# EAGLE library part 2.3-TFT-50P-0.5 (library 32teeth - 2.3" TFT 50P)
0.5mm Pitch Connectors For FPC/FFC Source: Data sheet <http://www.hirose.co.jp/cataloge_hp/e58605370.pdf>
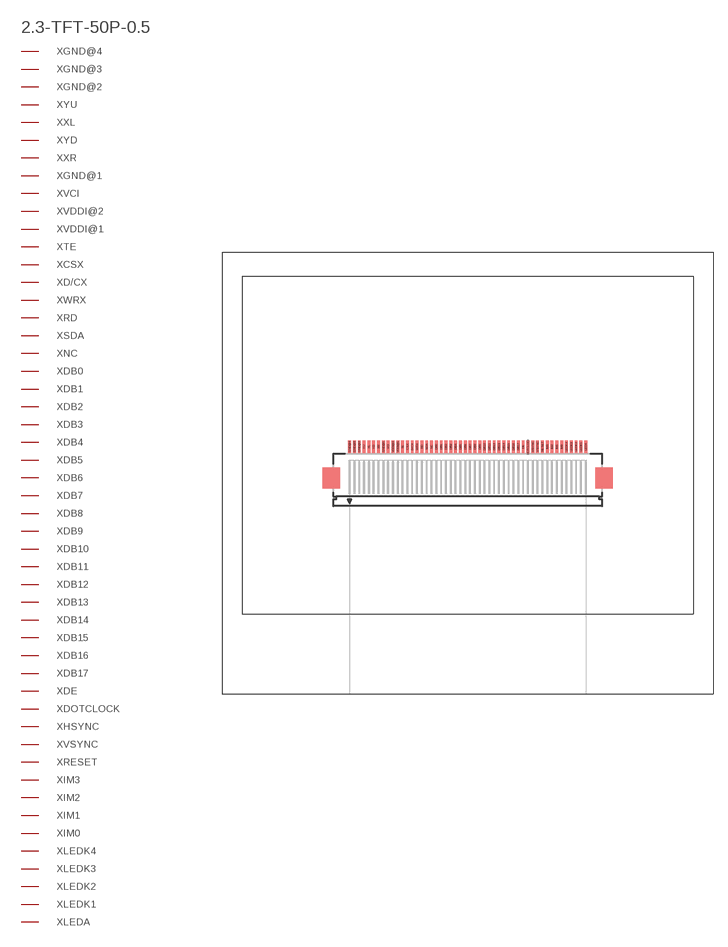
[diagram p0: symbol with the pads of 2.3-TFT-50P-0.5; footprint 2.3-TFT-50P-0.5]

Designator prefix X; gates GND@4=PINV GND@3=PIN GND@2=PIN YU=PIN XL=PIN YD=PIN XR=PIN GND@1=PIN VCI=PIN VDDI@2=PIN VDDI@1=PIN TE=PIN CSX=PIN D/CX=PIN WRX=PIN RD=PIN SDA=PIN NC=PIN DB0=PIN DB1=PIN DB2=PIN DB3=PIN DB4=PIN DB5=PIN DB6=PIN DB7=PIN DB8=PIN DB9=PIN DB10=PIN DB11=PIN DB12=PIN DB13=PIN DB14=PIN DB15=PIN DB16=PIN DB17=PIN DE=PIN DOTCLOCK=PIN HSYNC=PIN VSYNC=PIN RESET=PIN IM3=PIN IM2=PIN IM1=PIN IM0=PIN LEDK4=PIN LEDK3=PIN LEDK2=PIN LEDK1=PIN LEDA=PIN

## 2.3-TFT-50P-0.5H (MPN: FH12-50S-0.5SH(55); OC_FARNELL: 1324557; OC_NEWARK: 34M6181)  [2.3-TFT-50P-0.5]
CSX  CSX:1  pas
D/CX  D/CX:1  pas
DB0  DB0:1  pas
DB1  DB1:1  pas
DB2  DB2:1  pas
DB3  DB3:1  pas
DB4  DB4:1  pas
DB5  DB5:1  pas
DB6  DB6:1  pas
DB7  DB7:1  pas
DB8  DB8:1  pas
DB9  DB9:1  pas
DB10  DB10:1  pas
DB11  DB11:1  pas
DB12  DB12:1  pas
DB13  DB13:1  pas
DB14  DB14:1  pas
DB15  DB15:1  pas
DB16  DB16:1  pas
DB17  DB17:1  pas
DE  DE:1  pas
DOTCLOCK  DOTCLOCK:1  pas
GND@1  GND@1:1  pas
GND@2  GND@2:1  pas
GND@3  GND@3:1  pas
GND@4  GND@4:1  pas
HSYNC  HSYNC:1  pas
IM0  IM0:1  pas
IM1  IM1:1  pas
IM2  IM2:1  pas
IM3  IM3:1  pas
LEDA  LEDA:1  pas
LEDK1  LEDK1:1  pas
LEDK2  LEDK2:1  pas
LEDK3  LEDK3:1  pas
LEDK4  LEDK4:1  pas
NC  NC:1  pas
RD  RD:1  pas
RESET  RESET:1  pas
SDA  SDA:1  pas
TE  TE:1  pas
VCI  VCI:1  pas
VDDI@1  VDDI@1:1  pas
VDDI@2  VDDI@2:1  pas
VSYNC  VSYNC:1  pas
WRX  WRX:1  pas
XL  XL:1  pas
XR  XR:1  pas
YD  YD:1  pas
YU  YU:1  pas

## Footprint 2.3-TFT-50P-0.5 (pad centres in mm)
0.5mm Pitch Connectors For FPC/FFC Source: Data sheet <http://www.hirose.co.jp/cataloge_hp/e58605370.pdf>
smd 0.3 x 1.3: CSX -6.25,2.742; D/CX -5.75,2.742; DB0 -3.25,2.742; DB1 -2.75,2.742; DB2 -2.25,2.742; DB3 -1.75,2.742; DB4 -1.25,2.742; DB5 -0.75,2.742; DB6 -0.25,2.742; DB7 0.25,2.742; DB8 0.75,2.742; DB9 1.25,2.742; DB10 1.75,2.742; DB11 2.25,2.742; DB12 2.75,2.742; DB13 3.25,2.742; DB14 3.75,2.742; DB15 4.25,2.742; DB16 4.75,2.742; DB17 5.25,2.742; DE 5.75,2.742; DOTCLOCK 6.25,2.742; GND@1 -8.75,2.742; GND@2 -11.25,2.742; GND@3 -11.75,2.742; GND@4 -12.25,2.742; HSYNC 6.75,2.742; IM0 9.75,2.742; IM1 9.25,2.742; IM2 8.75,2.742; IM3 8.25,2.742; LEDA 12.25,2.742; LEDK1 11.75,2.742; LEDK2 11.25,2.742; LEDK3 10.75,2.742; LEDK4 10.25,2.742; NC -3.75,2.742; RD -4.75,2.742; RESET 7.75,2.742; SDA -4.25,2.742; TE -6.75,2.742; VCI -8.25,2.742; VDDI@1 -7.25,2.742; VDDI@2 -7.75,2.742; VSYNC 7.25,2.742; WRX -5.25,2.742; XL -10.25,2.742; XR -9.25,2.742; YD -9.75,2.742; YU -10.75,2.742